# Altium footprint library BMS_Devices.PcbLib: 136 footprints (part 4 of 9)
Each footprint in its own frame and in the unit in brackets; x right, y up, seen from the top. Pads: shape width x height; smd on the part's side, far side on the other; paste and mask are expansions set on the pad; w line width, h text height; cw(c..) or ccw(c..) is an arc to the next point about the centre after c.
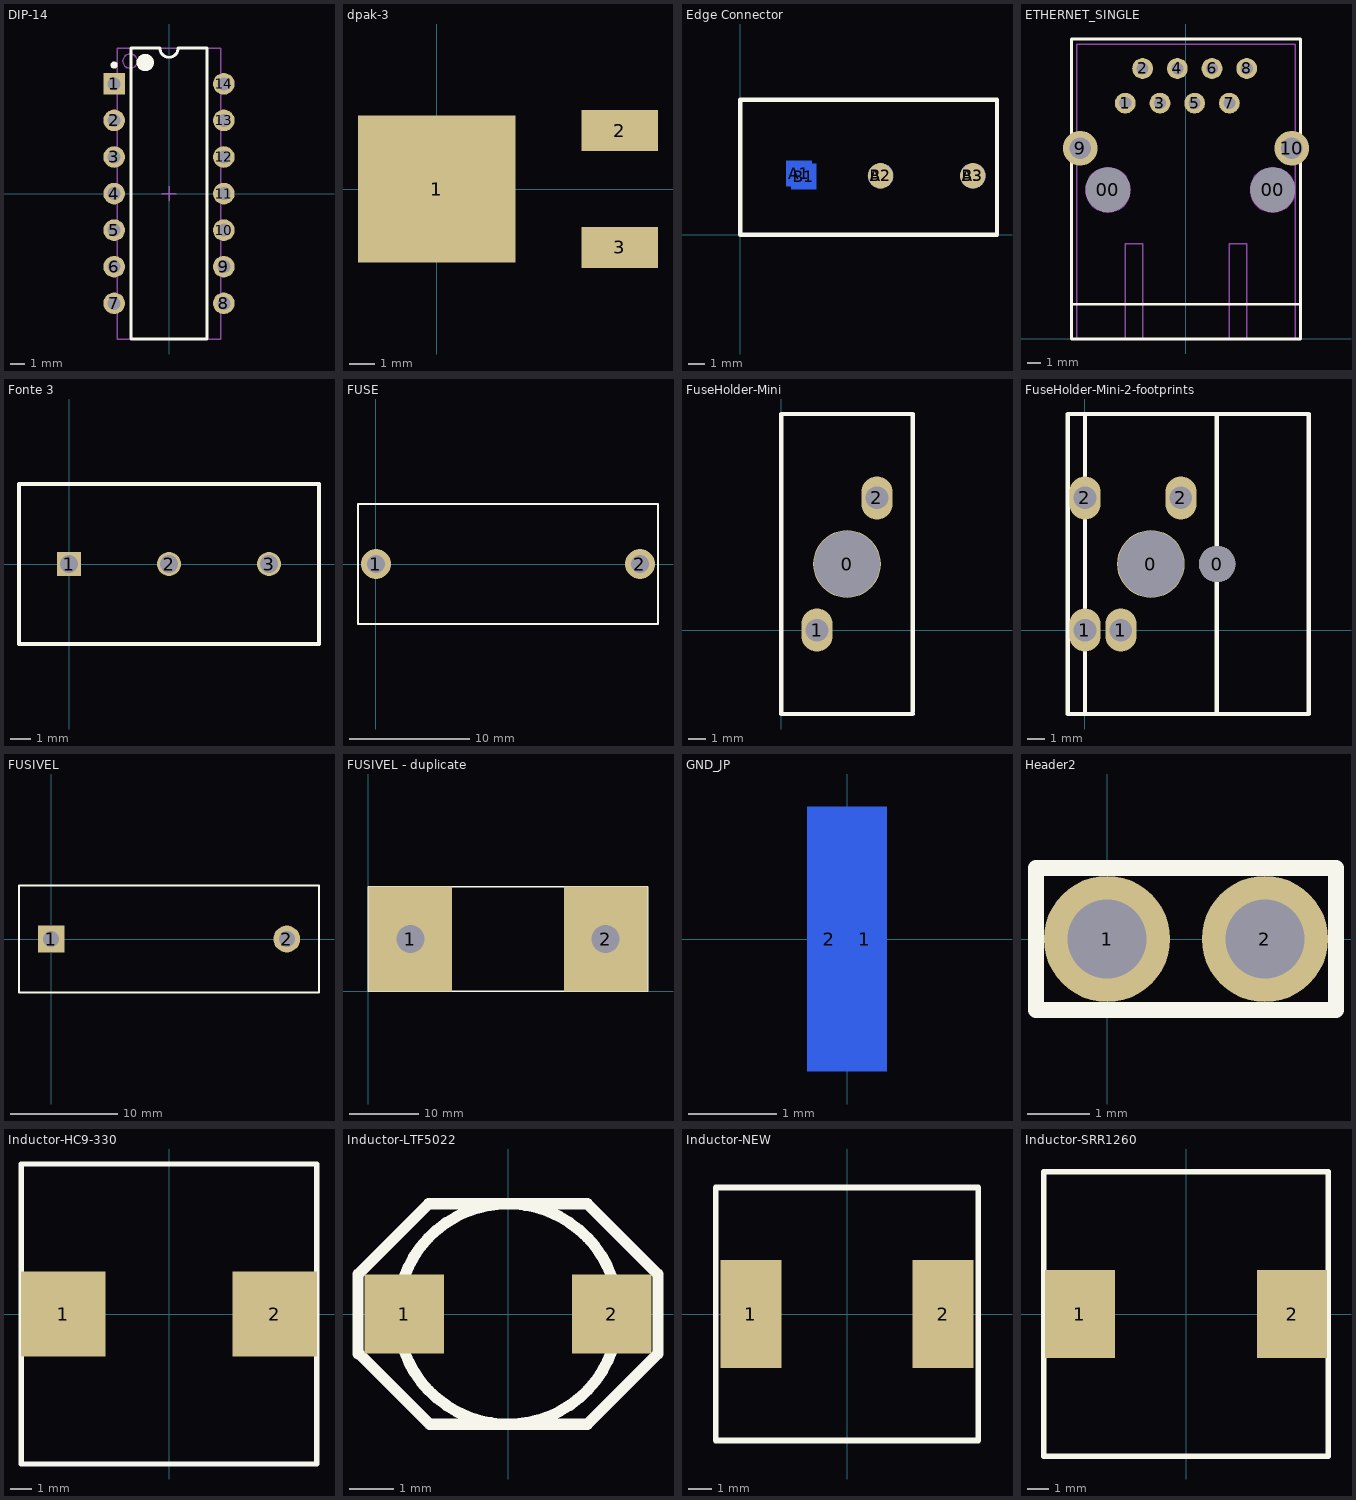
[diagram p3: the footprints below, top view; thin cyan lines are the x and y axes]

## DIP-14 [mm] "DIP; 14 Leads; Row Spacing 7.62 mm; Pitch 2.54 mm"
height 5.08
pads (14):
  rect 1.5x1.5 hole 0.9: 1(-3.81,7.62)
  round 1.5 hole 0.9: 2(-3.81,5.08) 3(-3.81,2.54) 4(-3.81,0) 5(-3.81,-2.54) 6(-3.81,-5.08) 7(-3.81,-7.62) 8(3.81,-7.62) 9(3.81,-5.08) 10(3.81,-2.54) 11(3.81,0) 12(3.81,2.54) 13(3.81,5.08) 14(3.81,7.62)
Top Overlay:
  circle w0.25: c-3.81,8.92 r0.125
  circle w0.6: c-1.65,9.1 r0.3
  lines w0.2: -2.65,-10.1 -2.65,10.1 -0.635,10.1 ccw(c0,10.1) 0.635,10.1 2.65,10.1 2.65,-10.1 -2.65,-10.1
Mechanical 13:
  circle w0.1: c-2.7,9.2 r0.5
  lines w0.1: -3.6,-10.1 -3.6,10.1 3.6,10.1 3.6,-10.1 -3.6,-10.1
Mechanical 15:
  lines w0.1: -0.5,0 0.5,0 ; 0,-0.5 0,0.5
3D body: height 5.08, standoff 0, extent -3.6,-10.1 3.6,10.1

## dpak-3 [mm] "usado no lm7805"
pads (3):
  rect 6.2x5.8 smd: 1(0,0)
  rect 3x1.6 smd: 2(7.2,2.3) 3(7.2,-2.3)

## Edge Connector [mm]
pads (6):
  rect 1.5x1.5 smd far side: A1(3.48,3.632) B1(3.759,3.454)
  round 1.5 smd: A2(8.306,3.5) A3(13.767,3.5)
  round 1.5 smd far side: B2(8.306,3.5) B3(13.767,3.5)
Top Overlay:
  lines w0.254: 0,0 15.2,0 15.2,8 0,8 0,0
Bottom Overlay:
  lines w0.254: -2.565,-2.565 -2.565,7.645

## ETHERNET_SINGLE [mil]
pads (12):
  round 128 hole 128: 00(-225,430) 00(250,430)
  round 60 hole 35: 1(-175,680) 2(-125,780) 3(-75,680) 4(-25,780) 5(25,680) 6(75,780) 7(125,680) 8(175,780)
  round 100 hole 63: 9(-305,550) 10(305,550)
Top Overlay:
  lines w8: -330,100 330,100 ; -315,0 330,0 330,865 -330,865 -330,0 -255,0
Mechanical 15:
  circle w4: c-225,430 r64
  circle w4: c-305,550 r32
  circle w4: c305,550 r32
  circle w4: c250,430 r64
  circle w4: c125,680 r20
  circle w4: c25,680 r20
  circle w4: c-75,680 r20
  circle w4: c-175,680 r20
  circle w4: c-125,780 r20
  circle w4: c-25,780 r20
  circle w4: c75,780 r20
  circle w4: c175,780 r20
  lines w4: -175,0 -175,275 -125,275 -125,0 ; 125,0 125,275 175,275 175,0 ; -315,0 -315,850 315,850 315,0 -315,0

## Fonte 3 [mm]
pads (3):
  rect 1.2x1.2 hole 0.9: 1(0,0)
  round 1.2 hole 0.9: 2(5,0) 3(10,0)
Top Overlay:
  lines w0.2: -2.5,-4 -2.5,4 12.5,4 12.5,-4 -2.5,-4

## FUSE [mm]
pads (2):
  round 2.5 hole 1.5: 1(0,0) 2(22,0)
Top Overlay:
  lines w0.2: -1.5,-5 -1.5,5 23.5,5 23.5,-5 -1.5,-5

## FuseHolder-Mini [mm]
pads (3):
  round 3.9 hole 3.8: 0(3.8,3.81)
  oval 1.8x2.5 hole 1.3: 1(2.07,0) 2(5.53,7.62)
Top Overlay:
  lines w0.254: 0,-4.84 0,12.46 ; 0.025,-4.84 7.595,-4.84 ; 0.076,12.46 7.544,12.46 ; 7.6,-4.713 7.6,12.46

## FuseHolder-Mini-2-footprints [mm]
pads (6):
  round 3.9 hole 3.8: 0(3.8,3.81)
  round 2.1 hole 2.1: 0(7.62,3.81)
  oval 1.8x2.5 hole 1.3: 1(0,0) 1(2.07,0) 2(0,7.62) 2(5.53,7.62)
Top Overlay:
  lines w0.254: 0,-4.84 0,12.46 ; 7.6,-4.713 7.6,12.46 ; -1,-4.84 -1,12.46 12.9,12.46 12.9,-4.84 -1,-4.84

## FUSIVEL [mm]
pads (2):
  rect 2.5x2.5 hole 1.5: 1(0,0)
  round 2.5 hole 1.5: 2(22,0)
Top Overlay:
  lines w0.2: -3,-5 -3,5 25,5 25,-5 -3,-5

## FUSIVEL - duplicate [mm]
pads (2):
  rect 12x15 hole 4: 1(6,7.5) 2(34,7.5)
Top Overlay:
  lines w0.2: 0,0 0,15 40,15 40,0 0,0

## GND_JP [mm]
pads (2):
  rect 0.5x3 smd far side paste+0 mask+0: 1(0.2,0) 2(-0.2,0)

## Header2 [mil]
pads (2):
  round 80 hole 50: 1(0,0) 2(100,0)
Top Overlay:
  lines w10: -45,-45 -45,45 145,45 145,-45 -45,-45

## Inductor-HC9-330 [mm]
pads (2):
  rect 4x4 smd: 1(-5,0) 2(5,0)
Top Overlay:
  lines w0.254: -7,-7.1 -7,7.1 7,7.1 7,-7.1 -7,-7.1

## Inductor-LTF5022 [mm]
pads (2):
  rect 1.8x1.8 smd: 1(-2.35,0) 2(2.35,0)
Top Overlay:
  lines w0.254: -3.402,-0.9 -3.402,0.9 -1.802,2.5 ; -3.377,-0.9 -1.777,-2.5 ; -2.364,0.813 cw(c0,0) 2.359,0.828 ; -2.359,-0.828 ccw(c0,0) 2.364,-0.813 ; -1.803,2.5 1.778,2.5 ; -1.753,-2.5 1.803,-2.5 ; 1.802,-2.5 3.402,-0.9 3.402,0.9 1.802,2.5
3D body: height 2.2, standoff 0, extent -3.251,-2.501 3.251,2.501

## Inductor-NEW [mm]
pads (2):
  rect 2.6x4.6 smd: 1(-4.1,0) 2(4.1,0)
Top Overlay:
  lines w0.254: -5.6,-5.4 -5.6,5.4 5.6,5.4 5.6,-5.4 -5.6,-5.4

## Inductor-SRR1260 [mm]
pads (2):
  rect 3.2x4 smd: 1(-4.85,0) 2(4.85,0)
Top Overlay:
  lines w0.254: -6.5,-6.5 -6.5,6.5 6.5,6.5 6.5,-6.5 -6.5,-6.5